# EAGLE library part SAM-M8Q (library SAM_M8Q)
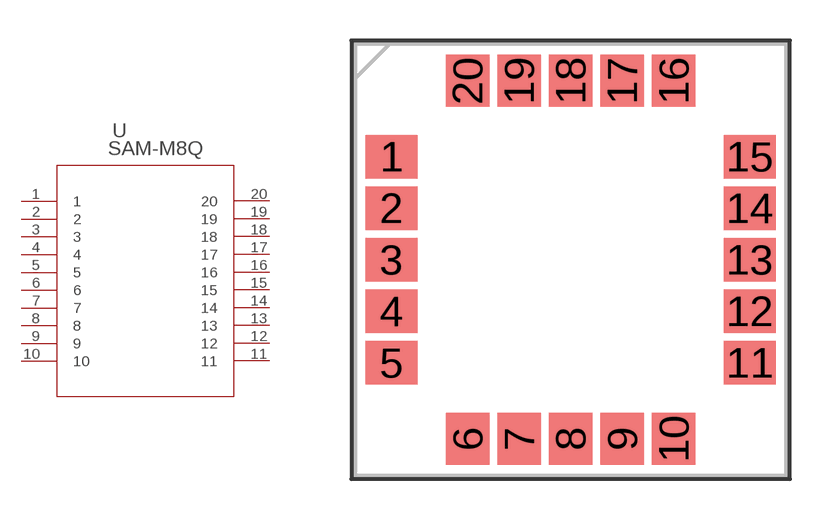
[diagram p0: symbol with the pads of QFN_M-M8Q; footprint QFN_M-M8Q]

Designator prefix U

## SAM-M8Q (BUILT_BY: EMA_Matt; COPYRIGHT: Copyright (C) 2018 Accelerated Designs. All rights reserved; DATASHEET: https://datasheet.octopart.com/SAM-M8Q-0-u-blox-datasheet-88027277.pdf; MANUFACTURER_PART_NUMBER: SAM-M8Q; VENDOR: Ublox)  [QFN_M-M8Q]
1  1  pas
2  2  pwr
3  3  pas
4  4  pas
5  5  pas
6  6  pas
7  7  pas
8  8  pas
9  9  pas
10  10  pas
11  11  pas
12  12  pas
13  13  pas
14  14  pas
15  15  pas
16  16  pas
17  17  pwr
18  18  pas
19  19  pas
20  20  pas

## Footprint QFN_M-M8Q (pad centres in mm)
smd 1.905 x 1.6: 1 -6.6,3.8; 2 -6.6,1.9; 3 -6.6,0; 4 -6.6,-1.9; 5 -6.6,-3.8; 11 6.6,-3.8; 12 6.6,-1.9; 13 6.6,0; 14 6.6,1.9; 15 6.6,3.8
smd 1.6 x 1.905: 6 -3.8,-6.6; 7 -1.9,-6.6; 8 0,-6.6; 9 1.9,-6.6; 10 3.8,-6.6; 16 3.8,6.6; 17 1.9,6.6; 18 0,6.6; 19 -1.9,6.6; 20 -3.8,6.6